# EAGLE library part LT5538 (library DFN-8)
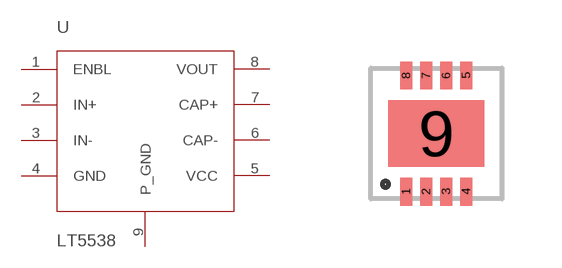
[diagram p1: symbol with the pads of DFN-8_3X3; footprint DFN-8_3X3]

Designator prefix U

## LT5538  [DFN-8_3X3]
1  ENBL
2  IN+
3  IN-
4  GND
5  VCC
6  CAP-
7  CAP+
8  VOUT
9  P_GND

## Footprint DFN-8_3X3 (pad centres in mm)
Now follows http://pdfserv.maximintegrated.com/land_patterns/90-0065.PDF Pasted was reduced by 40% width on the center ground pad, and some amount on the other 8. Stop mask extends 135 µm wider than the pad to hit dead center of what IPC-7351 recommends.
smd 0.3 x 0.7: 1 -0.75,-1.45; 2 -0.25,-1.45; 3 0.25,-1.45; 4 0.75,-1.45; 5 0.75,1.45; 6 0.25,1.45; 7 -0.25,1.45; 8 -0.75,1.45
smd 2.4 x 1.65: 9 0,0